# Altium footprint library ColdFire MPU.PcbLib: 9 footprints
Each footprint in its own frame and in the unit in brackets; x right, y up, seen from the top. Pads: shape width x height; smd on the part's side, far side on the other; paste and mask are expansions set on the pad; w line width, h text height; cw(c..) or ccw(c..) is an arc to the next point about the centre after c.
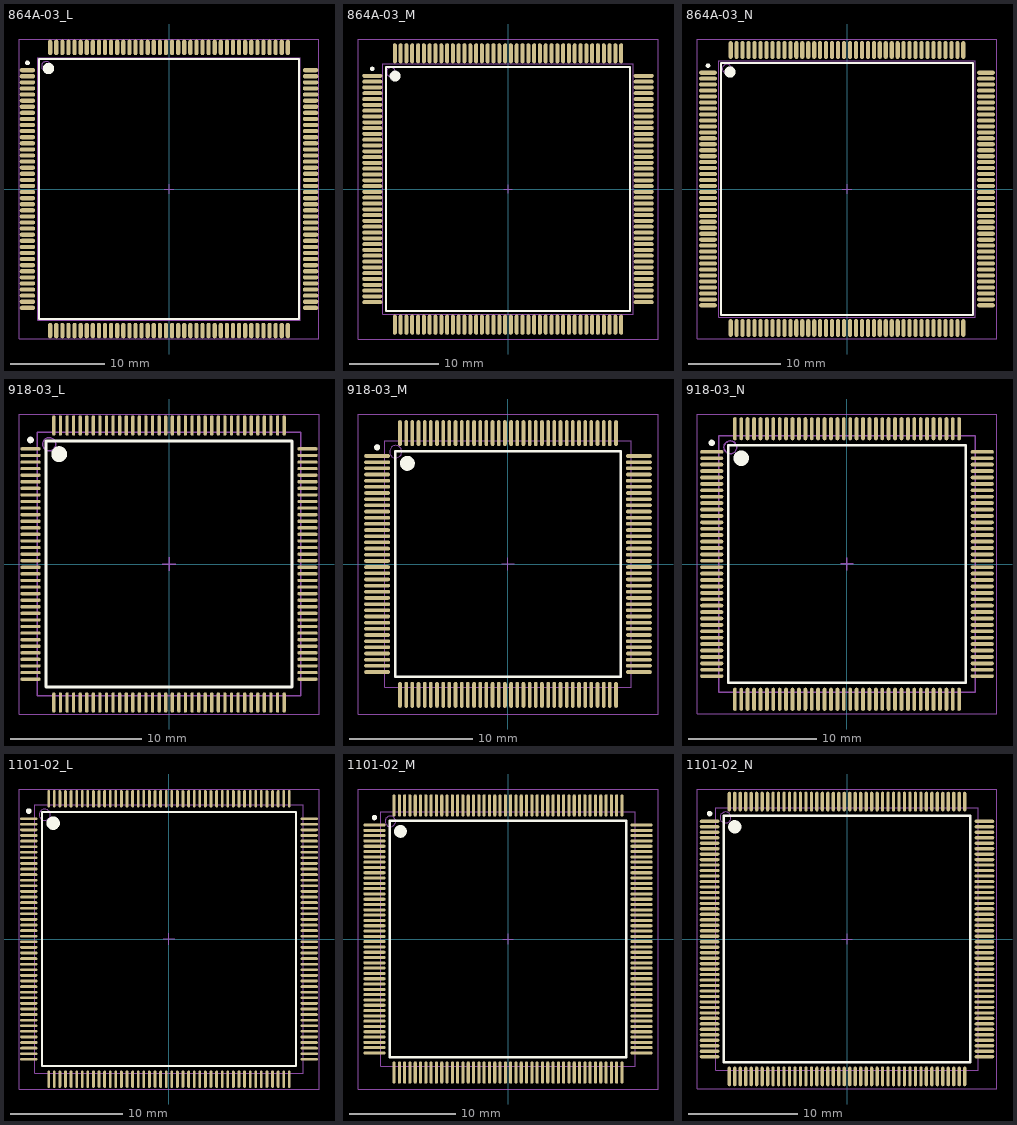
[diagram p0: the footprints below, top view; thin cyan lines are the x and y axes]

## 864A-03_L [mm] "QFP, 160-Leads, Body 28 x 28mm, Pitch 0.65mm, IPC High Density"
height 3.85
pads (160):
  oval 1.65x0.45 smd: 1(-15.1,12.675) 2(-15.1,12.025) 3(-15.1,11.375) 4(-15.1,10.725) 5(-15.1,10.075) 6(-15.1,9.425) 7(-15.1,8.775) 8(-15.1,8.125) 9(-15.1,7.475) 10(-15.1,6.825) 11(-15.1,6.175) 12(-15.1,5.525) 13(-15.1,4.875) 14(-15.1,4.225) 15(-15.1,3.575) 16(-15.1,2.925) 17(-15.1,2.275) 18(-15.1,1.625) 19(-15.1,0.975) 20(-15.1,0.325) 21(-15.1,-0.325) 22(-15.1,-0.975) 23(-15.1,-1.625) 24(-15.1,-2.275) 25(-15.1,-2.925) 26(-15.1,-3.575) 27(-15.1,-4.225) 28(-15.1,-4.875) 29(-15.1,-5.525) 30(-15.1,-6.175) 31(-15.1,-6.825) 32(-15.1,-7.475) 33(-15.1,-8.125) 34(-15.1,-8.775) 35(-15.1,-9.425) 36(-15.1,-10.075) 37(-15.1,-10.725) 38(-15.1,-11.375) 39(-15.1,-12.025) 40(-15.1,-12.675) 81(15.1,-12.675) 82(15.1,-12.025) 83(15.1,-11.375) 84(15.1,-10.725) 85(15.1,-10.075) 86(15.1,-9.425) 87(15.1,-8.775) 88(15.1,-8.125) 89(15.1,-7.475) 90(15.1,-6.825) 91(15.1,-6.175) 92(15.1,-5.525) 93(15.1,-4.875) 94(15.1,-4.225) 95(15.1,-3.575) 96(15.1,-2.925) 97(15.1,-2.275) 98(15.1,-1.625) 99(15.1,-0.975) 100(15.1,-0.325) 101(15.1,0.325) 102(15.1,0.975) 103(15.1,1.625) 104(15.1,2.275) 105(15.1,2.925) 106(15.1,3.575) 107(15.1,4.225) 108(15.1,4.875) 109(15.1,5.525) 110(15.1,6.175) 111(15.1,6.825) 112(15.1,7.475) 113(15.1,8.125) 114(15.1,8.775) 115(15.1,9.425) 116(15.1,10.075) 117(15.1,10.725) 118(15.1,11.375) 119(15.1,12.025) 120(15.1,12.675)
  oval 0.45x1.65 smd: 41(-12.675,-15.1) 42(-12.025,-15.1) 43(-11.375,-15.1) 44(-10.725,-15.1) 45(-10.075,-15.1) 46(-9.425,-15.1) 47(-8.775,-15.1) 48(-8.125,-15.1) 49(-7.475,-15.1) 50(-6.825,-15.1) 51(-6.175,-15.1) 52(-5.525,-15.1) 53(-4.875,-15.1) 54(-4.225,-15.1) 55(-3.575,-15.1) 56(-2.925,-15.1) 57(-2.275,-15.1) 58(-1.625,-15.1) 59(-0.975,-15.1) 60(-0.325,-15.1) 61(0.325,-15.1) 62(0.975,-15.1) 63(1.625,-15.1) 64(2.275,-15.1) 65(2.925,-15.1) 66(3.575,-15.1) 67(4.225,-15.1) 68(4.875,-15.1) 69(5.525,-15.1) 70(6.175,-15.1) 71(6.825,-15.1) 72(7.475,-15.1) 73(8.125,-15.1) 74(8.775,-15.1) 75(9.425,-15.1) 76(10.075,-15.1) 77(10.725,-15.1) 78(11.375,-15.1) 79(12.025,-15.1) 80(12.675,-15.1) 121(12.675,15.1) 122(12.025,15.1) 123(11.375,15.1) 124(10.725,15.1) 125(10.075,15.1) 126(9.425,15.1) 127(8.775,15.1) 128(8.125,15.1) 129(7.475,15.1) 130(6.825,15.1) 131(6.175,15.1) 132(5.525,15.1) 133(4.875,15.1) 134(4.225,15.1) 135(3.575,15.1) 136(2.925,15.1) 137(2.275,15.1) 138(1.625,15.1) 139(0.975,15.1) 140(0.325,15.1) 141(-0.325,15.1) 142(-0.975,15.1) 143(-1.625,15.1) 144(-2.275,15.1) 145(-2.925,15.1) 146(-3.575,15.1) 147(-4.225,15.1) 148(-4.875,15.1) 149(-5.525,15.1) 150(-6.175,15.1) 151(-6.825,15.1) 152(-7.475,15.1) 153(-8.125,15.1) 154(-8.775,15.1) 155(-9.425,15.1) 156(-10.075,15.1) 157(-10.725,15.1) 158(-11.375,15.1) 159(-12.025,15.1) 160(-12.675,15.1)
Top Overlay:
  circle w0.25: c-15.1,13.45 r0.125
  circle w0.6: c-12.85,12.85 r0.3
  lines w0.2: -13.85,-13.85 -13.85,13.85 13.85,13.85 13.85,-13.85 -13.85,-13.85
Mechanical 13:
  circle w0.1: c-13.1,13.1 r0.5
  lines w0.1: -14,-14 -14,14 14,14 14,-14 -14,-14
Mechanical 15:
  lines w0.05: -16,-16 -16,16 16,16 16,-16 -16,-16
  lines w0.1: -0.5,0 0.5,0 ; 0,-0.5 0,0.5
3D body "TQFP160.step": height 3.8, standoff 0, extent -15.35,-15.35 15.35,15.35

## 864A-03_M [mm] "QFP, 160-Leads, Body 28 x 28mm, Pitch 0.65mm, IPC Low Density"
height 3.85
pads (160):
  oval 2.25x0.45 smd: 1(-15.2,12.675) 2(-15.2,12.025) 3(-15.2,11.375) 4(-15.2,10.725) 5(-15.2,10.075) 6(-15.2,9.425) 7(-15.2,8.775) 8(-15.2,8.125) 9(-15.2,7.475) 10(-15.2,6.825) 11(-15.2,6.175) 12(-15.2,5.525) 13(-15.2,4.875) 14(-15.2,4.225) 15(-15.2,3.575) 16(-15.2,2.925) 17(-15.2,2.275) 18(-15.2,1.625) 19(-15.2,0.975) 20(-15.2,0.325) 21(-15.2,-0.325) 22(-15.2,-0.975) 23(-15.2,-1.625) 24(-15.2,-2.275) 25(-15.2,-2.925) 26(-15.2,-3.575) 27(-15.2,-4.225) 28(-15.2,-4.875) 29(-15.2,-5.525) 30(-15.2,-6.175) 31(-15.2,-6.825) 32(-15.2,-7.475) 33(-15.2,-8.125) 34(-15.2,-8.775) 35(-15.2,-9.425) 36(-15.2,-10.075) 37(-15.2,-10.725) 38(-15.2,-11.375) 39(-15.2,-12.025) 40(-15.2,-12.675) 81(15.2,-12.675) 82(15.2,-12.025) 83(15.2,-11.375) 84(15.2,-10.725) 85(15.2,-10.075) 86(15.2,-9.425) 87(15.2,-8.775) 88(15.2,-8.125) 89(15.2,-7.475) 90(15.2,-6.825) 91(15.2,-6.175) 92(15.2,-5.525) 93(15.2,-4.875) 94(15.2,-4.225) 95(15.2,-3.575) 96(15.2,-2.925) 97(15.2,-2.275) 98(15.2,-1.625) 99(15.2,-0.975) 100(15.2,-0.325) 101(15.2,0.325) 102(15.2,0.975) 103(15.2,1.625) 104(15.2,2.275) 105(15.2,2.925) 106(15.2,3.575) 107(15.2,4.225) 108(15.2,4.875) 109(15.2,5.525) 110(15.2,6.175) 111(15.2,6.825) 112(15.2,7.475) 113(15.2,8.125) 114(15.2,8.775) 115(15.2,9.425) 116(15.2,10.075) 117(15.2,10.725) 118(15.2,11.375) 119(15.2,12.025) 120(15.2,12.675)
  oval 0.45x2.25 smd: 41(-12.675,-15.2) 42(-12.025,-15.2) 43(-11.375,-15.2) 44(-10.725,-15.2) 45(-10.075,-15.2) 46(-9.425,-15.2) 47(-8.775,-15.2) 48(-8.125,-15.2) 49(-7.475,-15.2) 50(-6.825,-15.2) 51(-6.175,-15.2) 52(-5.525,-15.2) 53(-4.875,-15.2) 54(-4.225,-15.2) 55(-3.575,-15.2) 56(-2.925,-15.2) 57(-2.275,-15.2) 58(-1.625,-15.2) 59(-0.975,-15.2) 60(-0.325,-15.2) 61(0.325,-15.2) 62(0.975,-15.2) 63(1.625,-15.2) 64(2.275,-15.2) 65(2.925,-15.2) 66(3.575,-15.2) 67(4.225,-15.2) 68(4.875,-15.2) 69(5.525,-15.2) 70(6.175,-15.2) 71(6.825,-15.2) 72(7.475,-15.2) 73(8.125,-15.2) 74(8.775,-15.2) 75(9.425,-15.2) 76(10.075,-15.2) 77(10.725,-15.2) 78(11.375,-15.2) 79(12.025,-15.2) 80(12.675,-15.2) 121(12.675,15.2) 122(12.025,15.2) 123(11.375,15.2) 124(10.725,15.2) 125(10.075,15.2) 126(9.425,15.2) 127(8.775,15.2) 128(8.125,15.2) 129(7.475,15.2) 130(6.825,15.2) 131(6.175,15.2) 132(5.525,15.2) 133(4.875,15.2) 134(4.225,15.2) 135(3.575,15.2) 136(2.925,15.2) 137(2.275,15.2) 138(1.625,15.2) 139(0.975,15.2) 140(0.325,15.2) 141(-0.325,15.2) 142(-0.975,15.2) 143(-1.625,15.2) 144(-2.275,15.2) 145(-2.925,15.2) 146(-3.575,15.2) 147(-4.225,15.2) 148(-4.875,15.2) 149(-5.525,15.2) 150(-6.175,15.2) 151(-6.825,15.2) 152(-7.475,15.2) 153(-8.125,15.2) 154(-8.775,15.2) 155(-9.425,15.2) 156(-10.075,15.2) 157(-10.725,15.2) 158(-11.375,15.2) 159(-12.025,15.2) 160(-12.675,15.2)
Top Overlay:
  circle w0.25: c-15.2,13.45 r0.125
  circle w0.6: c-12.65,12.65 r0.3
  lines w0.2: -13.65,-13.65 -13.65,13.65 13.65,13.65 13.65,-13.65 -13.65,-13.65
Mechanical 13:
  circle w0.1: c-13.1,13.1 r0.5
  lines w0.1: -14,-14 -14,14 14,14 14,-14 -14,-14
Mechanical 15:
  lines w0.05: -16.8,-16.8 -16.8,16.8 16.8,16.8 16.8,-16.8 -16.8,-16.8
  lines w0.1: -0.5,0 0.5,0 ; 0,-0.5 0,0.5
3D body "TQFP160.step": height 3.8, standoff 0, extent -15.367,-15.333 15.333,15.367

## 864A-03_N [mm] "QFP, 160-Leads, Body 28 x 28mm, Pitch 0.65mm, IPC Medium Density"
height 3.85
pads (160):
  oval 1.95x0.45 smd: 1(-15.15,12.675) 2(-15.15,12.025) 3(-15.15,11.375) 4(-15.15,10.725) 5(-15.15,10.075) 6(-15.15,9.425) 7(-15.15,8.775) 8(-15.15,8.125) 9(-15.15,7.475) 10(-15.15,6.825) 11(-15.15,6.175) 12(-15.15,5.525) 13(-15.15,4.875) 14(-15.15,4.225) 15(-15.15,3.575) 16(-15.15,2.925) 17(-15.15,2.275) 18(-15.15,1.625) 19(-15.15,0.975) 20(-15.15,0.325) 21(-15.15,-0.325) 22(-15.15,-0.975) 23(-15.15,-1.625) 24(-15.15,-2.275) 25(-15.15,-2.925) 26(-15.15,-3.575) 27(-15.15,-4.225) 28(-15.15,-4.875) 29(-15.15,-5.525) 30(-15.15,-6.175) 31(-15.15,-6.825) 32(-15.15,-7.475) 33(-15.15,-8.125) 34(-15.15,-8.775) 35(-15.15,-9.425) 36(-15.15,-10.075) 37(-15.15,-10.725) 38(-15.15,-11.375) 39(-15.15,-12.025) 40(-15.15,-12.675) 81(15.15,-12.675) 82(15.15,-12.025) 83(15.15,-11.375) 84(15.15,-10.725) 85(15.15,-10.075) 86(15.15,-9.425) 87(15.15,-8.775) 88(15.15,-8.125) 89(15.15,-7.475) 90(15.15,-6.825) 91(15.15,-6.175) 92(15.15,-5.525) 93(15.15,-4.875) 94(15.15,-4.225) 95(15.15,-3.575) 96(15.15,-2.925) 97(15.15,-2.275) 98(15.15,-1.625) 99(15.15,-0.975) 100(15.15,-0.325) 101(15.15,0.325) 102(15.15,0.975) 103(15.15,1.625) 104(15.15,2.275) 105(15.15,2.925) 106(15.15,3.575) 107(15.15,4.225) 108(15.15,4.875) 109(15.15,5.525) 110(15.15,6.175) 111(15.15,6.825) 112(15.15,7.475) 113(15.15,8.125) 114(15.15,8.775) 115(15.15,9.425) 116(15.15,10.075) 117(15.15,10.725) 118(15.15,11.375) 119(15.15,12.025) 120(15.15,12.675)
  oval 0.45x1.95 smd: 41(-12.675,-15.15) 42(-12.025,-15.15) 43(-11.375,-15.15) 44(-10.725,-15.15) 45(-10.075,-15.15) 46(-9.425,-15.15) 47(-8.775,-15.15) 48(-8.125,-15.15) 49(-7.475,-15.15) 50(-6.825,-15.15) 51(-6.175,-15.15) 52(-5.525,-15.15) 53(-4.875,-15.15) 54(-4.225,-15.15) 55(-3.575,-15.15) 56(-2.925,-15.15) 57(-2.275,-15.15) 58(-1.625,-15.15) 59(-0.975,-15.15) 60(-0.325,-15.15) 61(0.325,-15.15) 62(0.975,-15.15) 63(1.625,-15.15) 64(2.275,-15.15) 65(2.925,-15.15) 66(3.575,-15.15) 67(4.225,-15.15) 68(4.875,-15.15) 69(5.525,-15.15) 70(6.175,-15.15) 71(6.825,-15.15) 72(7.475,-15.15) 73(8.125,-15.15) 74(8.775,-15.15) 75(9.425,-15.15) 76(10.075,-15.15) 77(10.725,-15.15) 78(11.375,-15.15) 79(12.025,-15.15) 80(12.675,-15.15) 121(12.675,15.15) 122(12.025,15.15) 123(11.375,15.15) 124(10.725,15.15) 125(10.075,15.15) 126(9.425,15.15) 127(8.775,15.15) 128(8.125,15.15) 129(7.475,15.15) 130(6.825,15.15) 131(6.175,15.15) 132(5.525,15.15) 133(4.875,15.15) 134(4.225,15.15) 135(3.575,15.15) 136(2.925,15.15) 137(2.275,15.15) 138(1.625,15.15) 139(0.975,15.15) 140(0.325,15.15) 141(-0.325,15.15) 142(-0.975,15.15) 143(-1.625,15.15) 144(-2.275,15.15) 145(-2.925,15.15) 146(-3.575,15.15) 147(-4.225,15.15) 148(-4.875,15.15) 149(-5.525,15.15) 150(-6.175,15.15) 151(-6.825,15.15) 152(-7.475,15.15) 153(-8.125,15.15) 154(-8.775,15.15) 155(-9.425,15.15) 156(-10.075,15.15) 157(-10.725,15.15) 158(-11.375,15.15) 159(-12.025,15.15) 160(-12.675,15.15)
Top Overlay:
  circle w0.25: c-15.15,13.45 r0.125
  circle w0.6: c-12.75,12.75 r0.3
  lines w0.2: -13.75,-13.75 -13.75,13.75 13.75,13.75 13.75,-13.75 -13.75,-13.75
Mechanical 13:
  circle w0.1: c-13.1,13.1 r0.5
  lines w0.1: -14,-14 -14,14 14,14 14,-14 -14,-14
Mechanical 15:
  lines w0.05: -16.35,-16.35 -16.35,16.35 16.35,16.35 16.35,-16.35 -16.35,-16.35
  lines w0.1: -0.5,0 0.5,0 ; 0,-0.5 0,0.5
3D body "TQFP160.step": height 3.8, standoff 0, extent -15.35,-15.35 15.35,15.35

## 918-03_L [mm] "Thin QFP, 144-Leads, Body 20x20mm, Pitch 0.5mm, IPC High Density"
height 1.6
pads (144):
  oval 1.55x0.25 smd: 1(-10.525,8.75) 2(-10.525,8.25) 3(-10.525,7.75) 4(-10.525,7.25) 5(-10.525,6.75) 6(-10.525,6.25) 7(-10.525,5.75) 8(-10.525,5.25) 9(-10.525,4.75) 10(-10.525,4.25) 11(-10.525,3.75) 12(-10.525,3.25) 13(-10.525,2.75) 14(-10.525,2.25) 15(-10.525,1.75) 16(-10.525,1.25) 17(-10.525,0.75) 18(-10.525,0.25) 19(-10.525,-0.25) 20(-10.525,-0.75) 21(-10.525,-1.25) 22(-10.525,-1.75) 23(-10.525,-2.25) 24(-10.525,-2.75) 25(-10.525,-3.25) 26(-10.525,-3.75) 27(-10.525,-4.25) 28(-10.525,-4.75) 29(-10.525,-5.25) 30(-10.525,-5.75) 31(-10.525,-6.25) 32(-10.525,-6.75) 33(-10.525,-7.25) 34(-10.525,-7.75) 35(-10.525,-8.25) 36(-10.525,-8.75) 73(10.525,-8.75) 74(10.525,-8.25) 75(10.525,-7.75) 76(10.525,-7.25) 77(10.525,-6.75) 78(10.525,-6.25) 79(10.525,-5.75) 80(10.525,-5.25) 81(10.525,-4.75) 82(10.525,-4.25) 83(10.525,-3.75) 84(10.525,-3.25) 85(10.525,-2.75) 86(10.525,-2.25) 87(10.525,-1.75) 88(10.525,-1.25) 89(10.525,-0.75) 90(10.525,-0.25) 91(10.525,0.25) 92(10.525,0.75) 93(10.525,1.25) 94(10.525,1.75) 95(10.525,2.25) 96(10.525,2.75) 97(10.525,3.25) 98(10.525,3.75) 99(10.525,4.25) 100(10.525,4.75) 101(10.525,5.25) 102(10.525,5.75) 103(10.525,6.25) 104(10.525,6.75) 105(10.525,7.25) 106(10.525,7.75) 107(10.525,8.25) 108(10.525,8.75)
  oval 0.25x1.55 smd: 37(-8.75,-10.525) 38(-8.25,-10.525) 39(-7.75,-10.525) 40(-7.25,-10.525) 41(-6.75,-10.525) 42(-6.25,-10.525) 43(-5.75,-10.525) 44(-5.25,-10.525) 45(-4.75,-10.525) 46(-4.25,-10.525) 47(-3.75,-10.525) 48(-3.25,-10.525) 49(-2.75,-10.525) 50(-2.25,-10.525) 51(-1.75,-10.525) 52(-1.25,-10.525) 53(-0.75,-10.525) 54(-0.25,-10.525) 55(0.25,-10.525) 56(0.75,-10.525) 57(1.25,-10.525) 58(1.75,-10.525) 59(2.25,-10.525) 60(2.75,-10.525) 61(3.25,-10.525) 62(3.75,-10.525) 63(4.25,-10.525) 64(4.75,-10.525) 65(5.25,-10.525) 66(5.75,-10.525) 67(6.25,-10.525) 68(6.75,-10.525) 69(7.25,-10.525) 70(7.75,-10.525) 71(8.25,-10.525) 72(8.75,-10.525) 109(8.75,10.525) 110(8.25,10.525) 111(7.75,10.525) 112(7.25,10.525) 113(6.75,10.525) 114(6.25,10.525) 115(5.75,10.525) 116(5.25,10.525) 117(4.75,10.525) 118(4.25,10.525) 119(3.75,10.525) 120(3.25,10.525) 121(2.75,10.525) 122(2.25,10.525) 123(1.75,10.525) 124(1.25,10.525) 125(0.75,10.525) 126(0.25,10.525) 127(-0.25,10.525) 128(-0.75,10.525) 129(-1.25,10.525) 130(-1.75,10.525) 131(-2.25,10.525) 132(-2.75,10.525) 133(-3.25,10.525) 134(-3.75,10.525) 135(-4.25,10.525) 136(-4.75,10.525) 137(-5.25,10.525) 138(-5.75,10.525) 139(-6.25,10.525) 140(-6.75,10.525) 141(-7.25,10.525) 142(-7.75,10.525) 143(-8.25,10.525) 144(-8.75,10.525)
Top Overlay:
  circle w0.25: c-10.525,9.425 r0.125
  circle w0.6: c-8.35,8.35 r0.3
  lines w0.2: -9.35,-9.35 -9.35,9.35 9.35,9.35 9.35,-9.35 -9.35,-9.35
Mechanical 13:
  circle w0.1: c-9.1,9.1 r0.5
  lines w0.1: -10,-10 -10,10 10,10 10,-10 -10,-10
Mechanical 15:
  lines w0.05: -11.4,-11.4 -11.4,11.4 11.4,11.4 11.4,-11.4 -11.4,-11.4
  lines w0.1: -0.5,0 0.5,0 ; 0,-0.5 0,0.5
3D body "TQFP144_20x20mm_Pitch0.5mm.step": height 1.1, standoff 0, extent -11,-11 11,11

## 918-03_M [mm] "Thin QFP, 144-Leads, Body 20x20mm, Pitch 0.5mm, IPC Low Density"
height 1.6
pads (144):
  oval 2.1x0.3 smd: 1(-10.6,8.75) 2(-10.6,8.25) 3(-10.6,7.75) 4(-10.6,7.25) 5(-10.6,6.75) 6(-10.6,6.25) 7(-10.6,5.75) 8(-10.6,5.25) 9(-10.6,4.75) 10(-10.6,4.25) 11(-10.6,3.75) 12(-10.6,3.25) 13(-10.6,2.75) 14(-10.6,2.25) 15(-10.6,1.75) 16(-10.6,1.25) 17(-10.6,0.75) 18(-10.6,0.25) 19(-10.6,-0.25) 20(-10.6,-0.75) 21(-10.6,-1.25) 22(-10.6,-1.75) 23(-10.6,-2.25) 24(-10.6,-2.75) 25(-10.6,-3.25) 26(-10.6,-3.75) 27(-10.6,-4.25) 28(-10.6,-4.75) 29(-10.6,-5.25) 30(-10.6,-5.75) 31(-10.6,-6.25) 32(-10.6,-6.75) 33(-10.6,-7.25) 34(-10.6,-7.75) 35(-10.6,-8.25) 36(-10.6,-8.75) 73(10.6,-8.75) 74(10.6,-8.25) 75(10.6,-7.75) 76(10.6,-7.25) 77(10.6,-6.75) 78(10.6,-6.25) 79(10.6,-5.75) 80(10.6,-5.25) 81(10.6,-4.75) 82(10.6,-4.25) 83(10.6,-3.75) 84(10.6,-3.25) 85(10.6,-2.75) 86(10.6,-2.25) 87(10.6,-1.75) 88(10.6,-1.25) 89(10.6,-0.75) 90(10.6,-0.25) 91(10.6,0.25) 92(10.6,0.75) 93(10.6,1.25) 94(10.6,1.75) 95(10.6,2.25) 96(10.6,2.75) 97(10.6,3.25) 98(10.6,3.75) 99(10.6,4.25) 100(10.6,4.75) 101(10.6,5.25) 102(10.6,5.75) 103(10.6,6.25) 104(10.6,6.75) 105(10.6,7.25) 106(10.6,7.75) 107(10.6,8.25) 108(10.6,8.75)
  oval 0.3x2.1 smd: 37(-8.75,-10.6) 38(-8.25,-10.6) 39(-7.75,-10.6) 40(-7.25,-10.6) 41(-6.75,-10.6) 42(-6.25,-10.6) 43(-5.75,-10.6) 44(-5.25,-10.6) 45(-4.75,-10.6) 46(-4.25,-10.6) 47(-3.75,-10.6) 48(-3.25,-10.6) 49(-2.75,-10.6) 50(-2.25,-10.6) 51(-1.75,-10.6) 52(-1.25,-10.6) 53(-0.75,-10.6) 54(-0.25,-10.6) 55(0.25,-10.6) 56(0.75,-10.6) 57(1.25,-10.6) 58(1.75,-10.6) 59(2.25,-10.6) 60(2.75,-10.6) 61(3.25,-10.6) 62(3.75,-10.6) 63(4.25,-10.6) 64(4.75,-10.6) 65(5.25,-10.6) 66(5.75,-10.6) 67(6.25,-10.6) 68(6.75,-10.6) 69(7.25,-10.6) 70(7.75,-10.6) 71(8.25,-10.6) 72(8.75,-10.6) 109(8.75,10.6) 110(8.25,10.6) 111(7.75,10.6) 112(7.25,10.6) 113(6.75,10.6) 114(6.25,10.6) 115(5.75,10.6) 116(5.25,10.6) 117(4.75,10.6) 118(4.25,10.6) 119(3.75,10.6) 120(3.25,10.6) 121(2.75,10.6) 122(2.25,10.6) 123(1.75,10.6) 124(1.25,10.6) 125(0.75,10.6) 126(0.25,10.6) 127(-0.25,10.6) 128(-0.75,10.6) 129(-1.25,10.6) 130(-1.75,10.6) 131(-2.25,10.6) 132(-2.75,10.6) 133(-3.25,10.6) 134(-3.75,10.6) 135(-4.25,10.6) 136(-4.75,10.6) 137(-5.25,10.6) 138(-5.75,10.6) 139(-6.25,10.6) 140(-6.75,10.6) 141(-7.25,10.6) 142(-7.75,10.6) 143(-8.25,10.6) 144(-8.75,10.6)
Top Overlay:
  circle w0.25: c-10.6,9.45 r0.125
  circle w0.6: c-8.15,8.15 r0.3
  lines w0.2: -9.15,-9.15 -9.15,9.15 9.15,9.15 9.15,-9.15 -9.15,-9.15
Mechanical 13:
  circle w0.1: c-9.1,9.1 r0.5
  lines w0.1: -10,-10 -10,10 10,10 10,-10 -10,-10
Mechanical 15:
  lines w0.05: -12.15,-12.15 -12.15,12.15 12.15,12.15 12.15,-12.15 -12.15,-12.15
  lines w0.1: -0.5,0 0.5,0 ; 0,-0.5 0,0.5
3D body "TQFP144_20x20mm_Pitch0.5mm.step": height 1.1, standoff 0, extent -11,-11 11,11

## 918-03_N [mm] "Thin QFP, 144-Leads, Body 20x20mm, Pitch 0.5mm, IPC Medium Density"
height 1.6
pads (144):
  oval 1.8x0.3 smd: 1(-10.55,8.75) 2(-10.55,8.25) 3(-10.55,7.75) 4(-10.55,7.25) 5(-10.55,6.75) 6(-10.55,6.25) 7(-10.55,5.75) 8(-10.55,5.25) 9(-10.55,4.75) 10(-10.55,4.25) 11(-10.55,3.75) 12(-10.55,3.25) 13(-10.55,2.75) 14(-10.55,2.25) 15(-10.55,1.75) 16(-10.55,1.25) 17(-10.55,0.75) 18(-10.55,0.25) 19(-10.55,-0.25) 20(-10.55,-0.75) 21(-10.55,-1.25) 22(-10.55,-1.75) 23(-10.55,-2.25) 24(-10.55,-2.75) 25(-10.55,-3.25) 26(-10.55,-3.75) 27(-10.55,-4.25) 28(-10.55,-4.75) 29(-10.55,-5.25) 30(-10.55,-5.75) 31(-10.55,-6.25) 32(-10.55,-6.75) 33(-10.55,-7.25) 34(-10.55,-7.75) 35(-10.55,-8.25) 36(-10.55,-8.75) 73(10.55,-8.75) 74(10.55,-8.25) 75(10.55,-7.75) 76(10.55,-7.25) 77(10.55,-6.75) 78(10.55,-6.25) 79(10.55,-5.75) 80(10.55,-5.25) 81(10.55,-4.75) 82(10.55,-4.25) 83(10.55,-3.75) 84(10.55,-3.25) 85(10.55,-2.75) 86(10.55,-2.25) 87(10.55,-1.75) 88(10.55,-1.25) 89(10.55,-0.75) 90(10.55,-0.25) 91(10.55,0.25) 92(10.55,0.75) 93(10.55,1.25) 94(10.55,1.75) 95(10.55,2.25) 96(10.55,2.75) 97(10.55,3.25) 98(10.55,3.75) 99(10.55,4.25) 100(10.55,4.75) 101(10.55,5.25) 102(10.55,5.75) 103(10.55,6.25) 104(10.55,6.75) 105(10.55,7.25) 106(10.55,7.75) 107(10.55,8.25) 108(10.55,8.75)
  oval 0.3x1.8 smd: 37(-8.75,-10.55) 38(-8.25,-10.55) 39(-7.75,-10.55) 40(-7.25,-10.55) 41(-6.75,-10.55) 42(-6.25,-10.55) 43(-5.75,-10.55) 44(-5.25,-10.55) 45(-4.75,-10.55) 46(-4.25,-10.55) 47(-3.75,-10.55) 48(-3.25,-10.55) 49(-2.75,-10.55) 50(-2.25,-10.55) 51(-1.75,-10.55) 52(-1.25,-10.55) 53(-0.75,-10.55) 54(-0.25,-10.55) 55(0.25,-10.55) 56(0.75,-10.55) 57(1.25,-10.55) 58(1.75,-10.55) 59(2.25,-10.55) 60(2.75,-10.55) 61(3.25,-10.55) 62(3.75,-10.55) 63(4.25,-10.55) 64(4.75,-10.55) 65(5.25,-10.55) 66(5.75,-10.55) 67(6.25,-10.55) 68(6.75,-10.55) 69(7.25,-10.55) 70(7.75,-10.55) 71(8.25,-10.55) 72(8.75,-10.55) 109(8.75,10.55) 110(8.25,10.55) 111(7.75,10.55) 112(7.25,10.55) 113(6.75,10.55) 114(6.25,10.55) 115(5.75,10.55) 116(5.25,10.55) 117(4.75,10.55) 118(4.25,10.55) 119(3.75,10.55) 120(3.25,10.55) 121(2.75,10.55) 122(2.25,10.55) 123(1.75,10.55) 124(1.25,10.55) 125(0.75,10.55) 126(0.25,10.55) 127(-0.25,10.55) 128(-0.75,10.55) 129(-1.25,10.55) 130(-1.75,10.55) 131(-2.25,10.55) 132(-2.75,10.55) 133(-3.25,10.55) 134(-3.75,10.55) 135(-4.25,10.55) 136(-4.75,10.55) 137(-5.25,10.55) 138(-5.75,10.55) 139(-6.25,10.55) 140(-6.75,10.55) 141(-7.25,10.55) 142(-7.75,10.55) 143(-8.25,10.55) 144(-8.75,10.55)
Top Overlay:
  circle w0.25: c-10.55,9.45 r0.125
  circle w0.6: c-8.25,8.25 r0.3
  lines w0.2: -9.25,-9.25 -9.25,9.25 9.25,9.25 9.25,-9.25 -9.25,-9.25
Mechanical 13:
  circle w0.1: c-9.1,9.1 r0.5
  lines w0.1: -10,-10 -10,10 10,10 10,-10 -10,-10
Mechanical 15:
  lines w0.05: -11.7,-11.7 -11.7,11.7 11.7,11.7 11.7,-11.7 -11.7,-11.7
  lines w0.1: -0.5,0 0.5,0 ; 0,-0.5 0,0.5
3D body "TQFP144_20x20mm_Pitch0.5mm.step": height 1.1, standoff 0, extent -11,-11 11,11

## 1101-02_L [mm] "Thin QFP, 176-Leads, Body 24x24mm, Pitch 0.5mm, IPC High Density"
height 1.6
pads (176):
  oval 1.55x0.25 smd: 1(-12.525,10.75) 2(-12.525,10.25) 3(-12.525,9.75) 4(-12.525,9.25) 5(-12.525,8.75) 6(-12.525,8.25) 7(-12.525,7.75) 8(-12.525,7.25) 9(-12.525,6.75) 10(-12.525,6.25) 11(-12.525,5.75) 12(-12.525,5.25) 13(-12.525,4.75) 14(-12.525,4.25) 15(-12.525,3.75) 16(-12.525,3.25) 17(-12.525,2.75) 18(-12.525,2.25) 19(-12.525,1.75) 20(-12.525,1.25) 21(-12.525,0.75) 22(-12.525,0.25) 23(-12.525,-0.25) 24(-12.525,-0.75) 25(-12.525,-1.25) 26(-12.525,-1.75) 27(-12.525,-2.25) 28(-12.525,-2.75) 29(-12.525,-3.25) 30(-12.525,-3.75) 31(-12.525,-4.25) 32(-12.525,-4.75) 33(-12.525,-5.25) 34(-12.525,-5.75) 35(-12.525,-6.25) 36(-12.525,-6.75) 37(-12.525,-7.25) 38(-12.525,-7.75) 39(-12.525,-8.25) 40(-12.525,-8.75) 41(-12.525,-9.25) 42(-12.525,-9.75) 43(-12.525,-10.25) 44(-12.525,-10.75) 89(12.525,-10.75) 90(12.525,-10.25) 91(12.525,-9.75) 92(12.525,-9.25) 93(12.525,-8.75) 94(12.525,-8.25) 95(12.525,-7.75) 96(12.525,-7.25) 97(12.525,-6.75) 98(12.525,-6.25) 99(12.525,-5.75) 100(12.525,-5.25) 101(12.525,-4.75) 102(12.525,-4.25) 103(12.525,-3.75) 104(12.525,-3.25) 105(12.525,-2.75) 106(12.525,-2.25) 107(12.525,-1.75) 108(12.525,-1.25) 109(12.525,-0.75) 110(12.525,-0.25) 111(12.525,0.25) 112(12.525,0.75) 113(12.525,1.25) 114(12.525,1.75) 115(12.525,2.25) 116(12.525,2.75) 117(12.525,3.25) 118(12.525,3.75) 119(12.525,4.25) 120(12.525,4.75) 121(12.525,5.25) 122(12.525,5.75) 123(12.525,6.25) 124(12.525,6.75) 125(12.525,7.25) 126(12.525,7.75) 127(12.525,8.25) 128(12.525,8.75) 129(12.525,9.25) 130(12.525,9.75) 131(12.525,10.25) 132(12.525,10.75)
  oval 0.25x1.55 smd: 45(-10.75,-12.525) 46(-10.25,-12.525) 47(-9.75,-12.525) 48(-9.25,-12.525) 49(-8.75,-12.525) 50(-8.25,-12.525) 51(-7.75,-12.525) 52(-7.25,-12.525) 53(-6.75,-12.525) 54(-6.25,-12.525) 55(-5.75,-12.525) 56(-5.25,-12.525) 57(-4.75,-12.525) 58(-4.25,-12.525) 59(-3.75,-12.525) 60(-3.25,-12.525) 61(-2.75,-12.525) 62(-2.25,-12.525) 63(-1.75,-12.525) 64(-1.25,-12.525) 65(-0.75,-12.525) 66(-0.25,-12.525) 67(0.25,-12.525) 68(0.75,-12.525) 69(1.25,-12.525) 70(1.75,-12.525) 71(2.25,-12.525) 72(2.75,-12.525) 73(3.25,-12.525) 74(3.75,-12.525) 75(4.25,-12.525) 76(4.75,-12.525) 77(5.25,-12.525) 78(5.75,-12.525) 79(6.25,-12.525) 80(6.75,-12.525) 81(7.25,-12.525) 82(7.75,-12.525) 83(8.25,-12.525) 84(8.75,-12.525) 85(9.25,-12.525) 86(9.75,-12.525) 87(10.25,-12.525) 88(10.75,-12.525) 133(10.75,12.525) 134(10.25,12.525) 135(9.75,12.525) 136(9.25,12.525) 137(8.75,12.525) 138(8.25,12.525) 139(7.75,12.525) 140(7.25,12.525) 141(6.75,12.525) 142(6.25,12.525) 143(5.75,12.525) 144(5.25,12.525) 145(4.75,12.525) 146(4.25,12.525) 147(3.75,12.525) 148(3.25,12.525) 149(2.75,12.525) 150(2.25,12.525) 151(1.75,12.525) 152(1.25,12.525) 153(0.75,12.525) 154(0.25,12.525) 155(-0.25,12.525) 156(-0.75,12.525) 157(-1.25,12.525) 158(-1.75,12.525) 159(-2.25,12.525) 160(-2.75,12.525) 161(-3.25,12.525) 162(-3.75,12.525) 163(-4.25,12.525) 164(-4.75,12.525) 165(-5.25,12.525) 166(-5.75,12.525) 167(-6.25,12.525) 168(-6.75,12.525) 169(-7.25,12.525) 170(-7.75,12.525) 171(-8.25,12.525) 172(-8.75,12.525) 173(-9.25,12.525) 174(-9.75,12.525) 175(-10.25,12.525) 176(-10.75,12.525)
Top Overlay:
  circle w0.6: c-10.35,10.35 r0.3
  circle w0.25: c-12.525,11.425 r0.125
  lines w0.2: -11.35,-11.35 11.35,-11.35 11.35,11.35 -11.35,11.35 -11.35,-11.35
Mechanical 13:
  circle w0.1: c-11.1,11.1 r0.5
  lines w0.1: -12,-12 12,-12 12,12 -12,12 -12,-12
Mechanical 15:
  lines w0.05: -13.4,-13.4 13.4,-13.4 13.4,13.4 -13.4,13.4 -13.4,-13.4
  lines w0.1: -0.5,0 0.5,0 ; 0,-0.5 0,0.5
3D body "TQFP176_2.step": height 1.6, standoff 0, extent -13.05,-13.05 13.05,13.05

## 1101-02_M [mm] "Thin QFP, 176-Leads, Body 24x24mm, Pitch 0.5mm, IPC Low Density"
height 1.6
pads (176):
  oval 2.1x0.3 smd: 1(-12.6,10.75) 2(-12.6,10.25) 3(-12.6,9.75) 4(-12.6,9.25) 5(-12.6,8.75) 6(-12.6,8.25) 7(-12.6,7.75) 8(-12.6,7.25) 9(-12.6,6.75) 10(-12.6,6.25) 11(-12.6,5.75) 12(-12.6,5.25) 13(-12.6,4.75) 14(-12.6,4.25) 15(-12.6,3.75) 16(-12.6,3.25) 17(-12.6,2.75) 18(-12.6,2.25) 19(-12.6,1.75) 20(-12.6,1.25) 21(-12.6,0.75) 22(-12.6,0.25) 23(-12.6,-0.25) 24(-12.6,-0.75) 25(-12.6,-1.25) 26(-12.6,-1.75) 27(-12.6,-2.25) 28(-12.6,-2.75) 29(-12.6,-3.25) 30(-12.6,-3.75) 31(-12.6,-4.25) 32(-12.6,-4.75) 33(-12.6,-5.25) 34(-12.6,-5.75) 35(-12.6,-6.25) 36(-12.6,-6.75) 37(-12.6,-7.25) 38(-12.6,-7.75) 39(-12.6,-8.25) 40(-12.6,-8.75) 41(-12.6,-9.25) 42(-12.6,-9.75) 43(-12.6,-10.25) 44(-12.6,-10.75) 89(12.6,-10.75) 90(12.6,-10.25) 91(12.6,-9.75) 92(12.6,-9.25) 93(12.6,-8.75) 94(12.6,-8.25) 95(12.6,-7.75) 96(12.6,-7.25) 97(12.6,-6.75) 98(12.6,-6.25) 99(12.6,-5.75) 100(12.6,-5.25) 101(12.6,-4.75) 102(12.6,-4.25) 103(12.6,-3.75) 104(12.6,-3.25) 105(12.6,-2.75) 106(12.6,-2.25) 107(12.6,-1.75) 108(12.6,-1.25) 109(12.6,-0.75) 110(12.6,-0.25) 111(12.6,0.25) 112(12.6,0.75) 113(12.6,1.25) 114(12.6,1.75) 115(12.6,2.25) 116(12.6,2.75) 117(12.6,3.25) 118(12.6,3.75) 119(12.6,4.25) 120(12.6,4.75) 121(12.6,5.25) 122(12.6,5.75) 123(12.6,6.25) 124(12.6,6.75) 125(12.6,7.25) 126(12.6,7.75) 127(12.6,8.25) 128(12.6,8.75) 129(12.6,9.25) 130(12.6,9.75) 131(12.6,10.25) 132(12.6,10.75)
  oval 0.3x2.1 smd: 45(-10.75,-12.6) 46(-10.25,-12.6) 47(-9.75,-12.6) 48(-9.25,-12.6) 49(-8.75,-12.6) 50(-8.25,-12.6) 51(-7.75,-12.6) 52(-7.25,-12.6) 53(-6.75,-12.6) 54(-6.25,-12.6) 55(-5.75,-12.6) 56(-5.25,-12.6) 57(-4.75,-12.6) 58(-4.25,-12.6) 59(-3.75,-12.6) 60(-3.25,-12.6) 61(-2.75,-12.6) 62(-2.25,-12.6) 63(-1.75,-12.6) 64(-1.25,-12.6) 65(-0.75,-12.6) 66(-0.25,-12.6) 67(0.25,-12.6) 68(0.75,-12.6) 69(1.25,-12.6) 70(1.75,-12.6) 71(2.25,-12.6) 72(2.75,-12.6) 73(3.25,-12.6) 74(3.75,-12.6) 75(4.25,-12.6) 76(4.75,-12.6) 77(5.25,-12.6) 78(5.75,-12.6) 79(6.25,-12.6) 80(6.75,-12.6) 81(7.25,-12.6) 82(7.75,-12.6) 83(8.25,-12.6) 84(8.75,-12.6) 85(9.25,-12.6) 86(9.75,-12.6) 87(10.25,-12.6) 88(10.75,-12.6) 133(10.75,12.6) 134(10.25,12.6) 135(9.75,12.6) 136(9.25,12.6) 137(8.75,12.6) 138(8.25,12.6) 139(7.75,12.6) 140(7.25,12.6) 141(6.75,12.6) 142(6.25,12.6) 143(5.75,12.6) 144(5.25,12.6) 145(4.75,12.6) 146(4.25,12.6) 147(3.75,12.6) 148(3.25,12.6) 149(2.75,12.6) 150(2.25,12.6) 151(1.75,12.6) 152(1.25,12.6) 153(0.75,12.6) 154(0.25,12.6) 155(-0.25,12.6) 156(-0.75,12.6) 157(-1.25,12.6) 158(-1.75,12.6) 159(-2.25,12.6) 160(-2.75,12.6) 161(-3.25,12.6) 162(-3.75,12.6) 163(-4.25,12.6) 164(-4.75,12.6) 165(-5.25,12.6) 166(-5.75,12.6) 167(-6.25,12.6) 168(-6.75,12.6) 169(-7.25,12.6) 170(-7.75,12.6) 171(-8.25,12.6) 172(-8.75,12.6) 173(-9.25,12.6) 174(-9.75,12.6) 175(-10.25,12.6) 176(-10.75,12.6)
Top Overlay:
  circle w0.25: c-12.6,11.45 r0.125
  circle w0.6: c-10.15,10.15 r0.3
  lines w0.2: -11.15,-11.15 -11.15,11.15 11.15,11.15 11.15,-11.15 -11.15,-11.15
Mechanical 13:
  circle w0.1: c-11.1,11.1 r0.5
  lines w0.1: -12,-12 -12,12 12,12 12,-12 -12,-12
Mechanical 15:
  lines w0.05: -14.15,-14.15 -14.15,14.15 14.15,14.15 14.15,-14.15 -14.15,-14.15
  lines w0.1: -0.5,0 0.5,0 ; 0,-0.5 0,0.5
3D body "TQFP176_2.step": height 1.6, standoff 0, extent -13.056,-13.044 13.044,13.056

## 1101-02_N [mm] "Thin QFP, 176-Leads, Body 24x24mm, Pitch 0.5mm, IPC Medium Density"
height 1.6
pads (176):
  oval 1.8x0.3 smd: 1(-12.55,10.75) 2(-12.55,10.25) 3(-12.55,9.75) 4(-12.55,9.25) 5(-12.55,8.75) 6(-12.55,8.25) 7(-12.55,7.75) 8(-12.55,7.25) 9(-12.55,6.75) 10(-12.55,6.25) 11(-12.55,5.75) 12(-12.55,5.25) 13(-12.55,4.75) 14(-12.55,4.25) 15(-12.55,3.75) 16(-12.55,3.25) 17(-12.55,2.75) 18(-12.55,2.25) 19(-12.55,1.75) 20(-12.55,1.25) 21(-12.55,0.75) 22(-12.55,0.25) 23(-12.55,-0.25) 24(-12.55,-0.75) 25(-12.55,-1.25) 26(-12.55,-1.75) 27(-12.55,-2.25) 28(-12.55,-2.75) 29(-12.55,-3.25) 30(-12.55,-3.75) 31(-12.55,-4.25) 32(-12.55,-4.75) 33(-12.55,-5.25) 34(-12.55,-5.75) 35(-12.55,-6.25) 36(-12.55,-6.75) 37(-12.55,-7.25) 38(-12.55,-7.75) 39(-12.55,-8.25) 40(-12.55,-8.75) 41(-12.55,-9.25) 42(-12.55,-9.75) 43(-12.55,-10.25) 44(-12.55,-10.75) 89(12.55,-10.75) 90(12.55,-10.25) 91(12.55,-9.75) 92(12.55,-9.25) 93(12.55,-8.75) 94(12.55,-8.25) 95(12.55,-7.75) 96(12.55,-7.25) 97(12.55,-6.75) 98(12.55,-6.25) 99(12.55,-5.75) 100(12.55,-5.25) 101(12.55,-4.75) 102(12.55,-4.25) 103(12.55,-3.75) 104(12.55,-3.25) 105(12.55,-2.75) 106(12.55,-2.25) 107(12.55,-1.75) 108(12.55,-1.25) 109(12.55,-0.75) 110(12.55,-0.25) 111(12.55,0.25) 112(12.55,0.75) 113(12.55,1.25) 114(12.55,1.75) 115(12.55,2.25) 116(12.55,2.75) 117(12.55,3.25) 118(12.55,3.75) 119(12.55,4.25) 120(12.55,4.75) 121(12.55,5.25) 122(12.55,5.75) 123(12.55,6.25) 124(12.55,6.75) 125(12.55,7.25) 126(12.55,7.75) 127(12.55,8.25) 128(12.55,8.75) 129(12.55,9.25) 130(12.55,9.75) 131(12.55,10.25) 132(12.55,10.75)
  oval 0.3x1.8 smd: 45(-10.75,-12.55) 46(-10.25,-12.55) 47(-9.75,-12.55) 48(-9.25,-12.55) 49(-8.75,-12.55) 50(-8.25,-12.55) 51(-7.75,-12.55) 52(-7.25,-12.55) 53(-6.75,-12.55) 54(-6.25,-12.55) 55(-5.75,-12.55) 56(-5.25,-12.55) 57(-4.75,-12.55) 58(-4.25,-12.55) 59(-3.75,-12.55) 60(-3.25,-12.55) 61(-2.75,-12.55) 62(-2.25,-12.55) 63(-1.75,-12.55) 64(-1.25,-12.55) 65(-0.75,-12.55) 66(-0.25,-12.55) 67(0.25,-12.55) 68(0.75,-12.55) 69(1.25,-12.55) 70(1.75,-12.55) 71(2.25,-12.55) 72(2.75,-12.55) 73(3.25,-12.55) 74(3.75,-12.55) 75(4.25,-12.55) 76(4.75,-12.55) 77(5.25,-12.55) 78(5.75,-12.55) 79(6.25,-12.55) 80(6.75,-12.55) 81(7.25,-12.55) 82(7.75,-12.55) 83(8.25,-12.55) 84(8.75,-12.55) 85(9.25,-12.55) 86(9.75,-12.55) 87(10.25,-12.55) 88(10.75,-12.55) 133(10.75,12.55) 134(10.25,12.55) 135(9.75,12.55) 136(9.25,12.55) 137(8.75,12.55) 138(8.25,12.55) 139(7.75,12.55) 140(7.25,12.55) 141(6.75,12.55) 142(6.25,12.55) 143(5.75,12.55) 144(5.25,12.55) 145(4.75,12.55) 146(4.25,12.55) 147(3.75,12.55) 148(3.25,12.55) 149(2.75,12.55) 150(2.25,12.55) 151(1.75,12.55) 152(1.25,12.55) 153(0.75,12.55) 154(0.25,12.55) 155(-0.25,12.55) 156(-0.75,12.55) 157(-1.25,12.55) 158(-1.75,12.55) 159(-2.25,12.55) 160(-2.75,12.55) 161(-3.25,12.55) 162(-3.75,12.55) 163(-4.25,12.55) 164(-4.75,12.55) 165(-5.25,12.55) 166(-5.75,12.55) 167(-6.25,12.55) 168(-6.75,12.55) 169(-7.25,12.55) 170(-7.75,12.55) 171(-8.25,12.55) 172(-8.75,12.55) 173(-9.25,12.55) 174(-9.75,12.55) 175(-10.25,12.55) 176(-10.75,12.55)
Top Overlay:
  circle w0.6: c-10.25,10.25 r0.3
  circle w0.25: c-12.55,11.45 r0.125
  lines w0.2: -11.25,-11.25 11.25,-11.25 11.25,11.25 -11.25,11.25 -11.25,-11.25
Mechanical 13:
  circle w0.1: c-11.1,11.1 r0.5
  lines w0.1: -12,-12 12,-12 12,12 -12,12 -12,-12
Mechanical 15:
  lines w0.05: -13.7,-13.7 13.7,-13.7 13.7,13.7 -13.7,13.7 -13.7,-13.7
  lines w0.1: -0.5,0 0.5,0 ; 0,-0.5 0,0.5
3D body "TQFP176_2.step": height 1.6, standoff 0, extent -13.056,-13.044 13.044,13.056